# EAGLE library part XL (library LaunchPadXL)
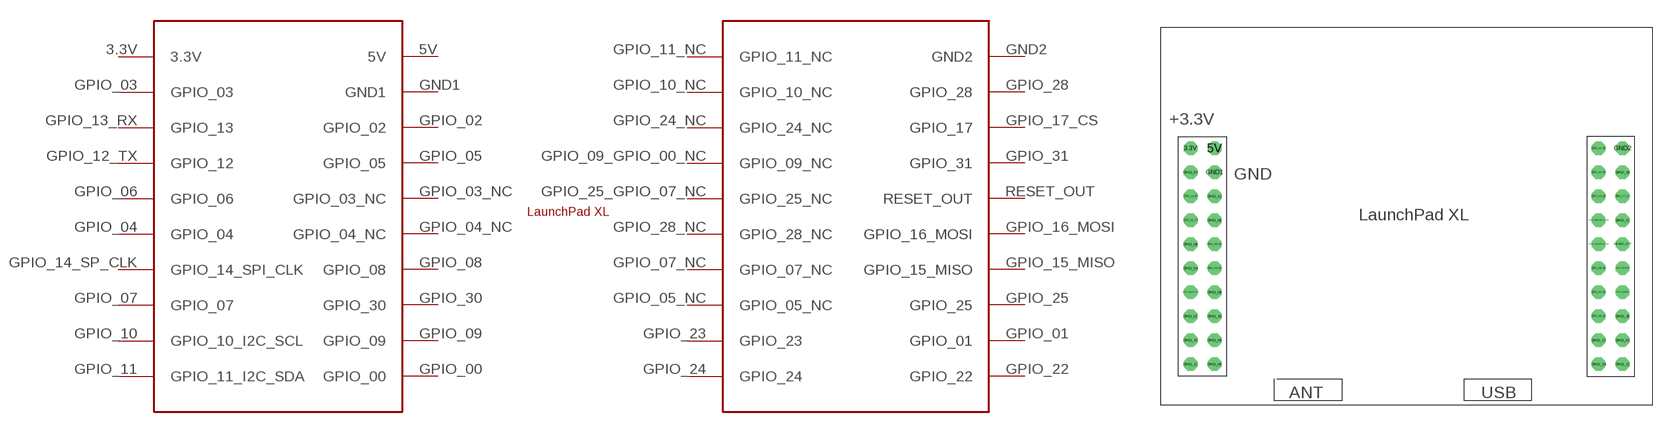
[diagram p0: symbol with the pads of LAUNCHPADXL; footprint LAUNCHPADXL]

Designator prefix -

## XL  [LAUNCHPADXL]
3.3V  3.3V
5V  5V
GND1  GND1
GND2  GND2
GPIO_00  GPIO_00
GPIO_01  GPIO_01
GPIO_02  GPIO_02
GPIO_03  GPIO_03
GPIO_03_NC  GPIO_03_NC
GPIO_04  GPIO_04
GPIO_04_NC  GPIO_04_NC
GPIO_05  GPIO_05
GPIO_05_NC  GPIO_05_NC
GPIO_06  GPIO_06
GPIO_07  GPIO_07
GPIO_07_NC  GPIO_07_NC
GPIO_08  GPIO_08
GPIO_09  GPIO_09
GPIO_09_GPIO_00_NC  GPIO_09_NC
GPIO_10  GPIO_10_I2C_SCL
GPIO_10_NC  GPIO_10_NC
GPIO_11  GPIO_11_I2C_SDA
GPIO_11_NC  GPIO_11_NC
GPIO_12_TX  GPIO_12
GPIO_13_RX  GPIO_13
GPIO_14_SP_CLK  GPIO_14_SPI_CLK
GPIO_15_MISO  GPIO_15_MISO
GPIO_16_MOSI  GPIO_16_MOSI
GPIO_17_CS  GPIO_17
GPIO_22  GPIO_22
GPIO_23  GPIO_23
GPIO_24  GPIO_24
GPIO_24_NC  GPIO_24_NC
GPIO_25  GPIO_25
GPIO_25_GPIO_07_NC  GPIO_25_NC
GPIO_28  GPIO_28
GPIO_28_NC  GPIO_28_NC
GPIO_30  GPIO_30
GPIO_31  GPIO_31
RESET_OUT  RESET_OUT

## Footprint LAUNCHPADXL (pad centres in mm)
drill 0.914 octagon: 3.3V -22.86,8.16; 5V -20.32,8.16; GND1 -20.32,5.62; GND2 22.86,8.16; GPIO_00 -20.32,-14.7; GPIO_01 22.86,-12.16; GPIO_02 -20.32,3.08; GPIO_03 -22.86,5.62; GPIO_03_NC -20.32,-2; GPIO_04 -22.86,-4.54; GPIO_04_NC -20.32,-4.54; GPIO_05 -20.32,0.54; GPIO_05_NC 20.32,-9.62; GPIO_06 -22.86,-2; GPIO_07 -22.86,-9.62; GPIO_07_NC 20.32,-7.08; GPIO_08 -20.32,-7.08; GPIO_09 -20.32,-12.16; GPIO_09_GPIO_00_NC 20.32,0.54; GPIO_10 -22.86,-12.16; GPIO_10_NC 20.32,5.62; GPIO_11 -22.86,-14.7; GPIO_11_NC 20.32,8.16; GPIO_12_TX -22.86,0.54; GPIO_13_RX -22.86,3.08; GPIO_14_SP_CLK -22.86,-7.08; GPIO_15_MISO 22.86,-7.08; GPIO_16_MOSI 22.86,-4.54; GPIO_17_CS 22.86,3.08; GPIO_22 22.86,-14.7; GPIO_23 20.32,-12.16; GPIO_24 20.32,-14.7; GPIO_24_NC 20.32,3.08; GPIO_25 22.86,-9.62; GPIO_25_GPIO_07_NC 20.32,-2; GPIO_28 22.86,5.62; GPIO_28_NC 20.32,-4.54; GPIO_30 -20.32,-9.62; GPIO_31 22.86,0.54; RESET_OUT 22.86,-2